# Altium footprint library VALIX.PcbLib: 48 footprints (part 2 of 3)
Each footprint in its own frame and in the unit in brackets; x right, y up, seen from the top. Pads: shape width x height; smd on the part's side, far side on the other; paste and mask are expansions set on the pad; w line width, h text height; cw(c..) or ccw(c..) is an arc to the next point about the centre after c.
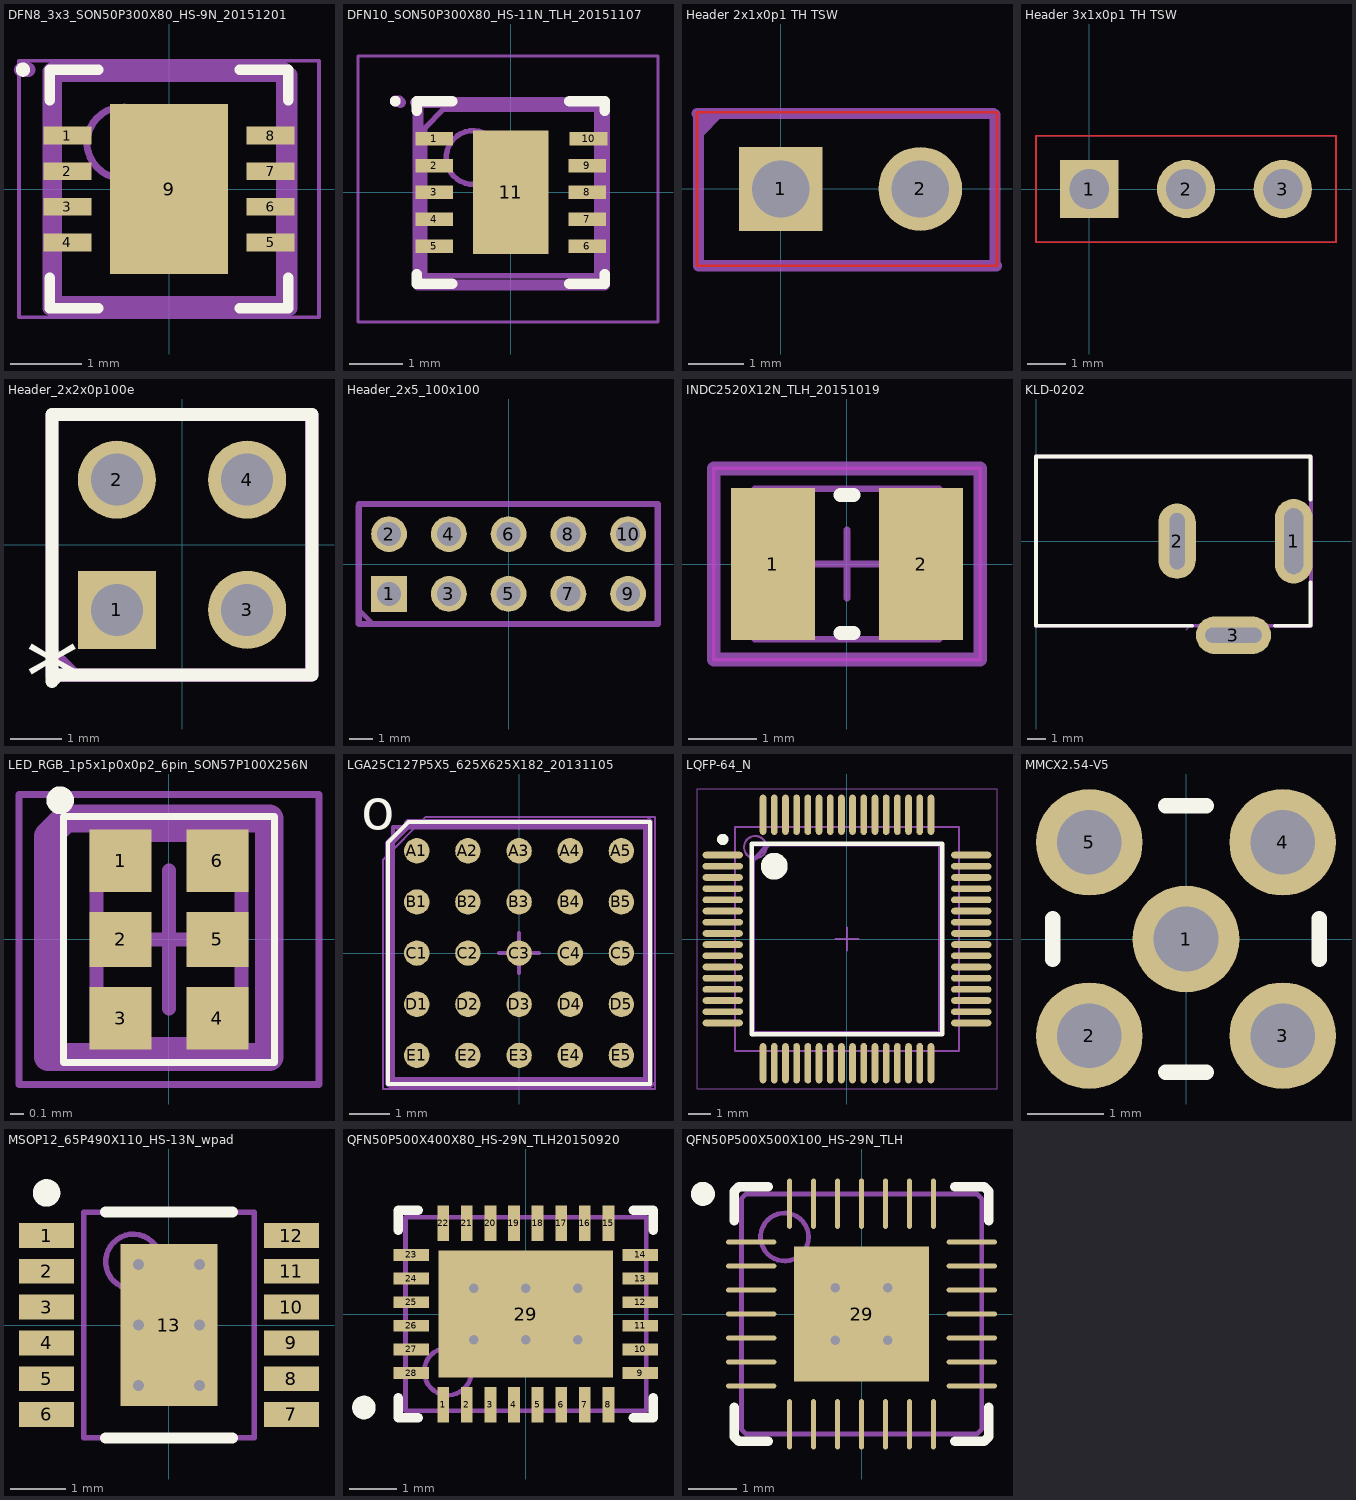
[diagram p1: the footprints below, top view; thin cyan lines are the x and y axes]

## DFN8_3x3_SON50P300X80_HS-9N_20151201 [mm] "SON, 8-Leads, Body 3.00x3.00mm, Pitch 0.50mm, Thermal Pad 2.80x1.80mm, IPC Medium Density"
height 0.8
pads (9):
  rect 0.675x0.25 smd: 1(-1.425,0.75) 2(-1.425,0.25) 3(-1.425,-0.25) 4(-1.425,-0.75) 5(1.425,-0.75) 6(1.425,-0.25) 7(1.425,0.25) 8(1.425,0.75)
  rect 1.65x2.38 smd: 9(0,0)
Top Overlay:
  circle w0.1: c-2.05,1.675 r0.05
  lines w0.15: -1.675,-1.25 -1.675,-1.675 -0.995,-1.675 ; -1.675,1.25 -1.675,1.675 -0.995,1.675 ; 0.995,-1.675 1.675,-1.675 1.675,-1.25 ; 0.995,1.675 1.675,1.675 1.675,1.25
Assy Top:
  lines w0.203: -2.075,1.675 -1.975,1.675 ; -1.675,-1.675 1.7,-1.675 1.7,1.6 1.625,1.675 -1.65,1.675 -1.675,1.65 -1.675,-1.675
  text ".Designator" at -1.2,-0.05 h0.51
Mech 13 3D:
  circle w0.1: c-0.65,0.65 r0.5
  lines w0.1: -1.55,-1.55 -1.55,1.55 1.55,1.55 1.55,-1.55 -1.55,-1.55
Mech 15 Keepout:
  lines w0.05: -2.105,-1.8 -2.105,1.8 2.105,1.8 2.105,-1.8 -2.105,-1.8
  lines w0.1: -0.5,0 0.5,0 ; 0,-0.5 0,0.5
3D body: height 0.79, standoff 0, extent -1.55,-1.55 1.55,1.55

## DFN10_SON50P300X80_HS-11N_TLH_20151107 [mm] "SON, 10-Leads, Body 3.00x3.00mm, Pitch 0.50mm, Thermal Pad 2.38x1.49mm, IPC Medium Density"
height 0.8
pads (11):
  rect 0.7x0.25 smd: 1(-1.425,1) 2(-1.425,0.5) 3(-1.425,0) 4(-1.425,-0.5) 5(-1.425,-1) 6(1.425,-1) 7(1.425,-0.5) 8(1.425,0) 9(1.425,0.5) 10(1.45,1)
  rect 1.4x2.3 smd: 11(0,0)
Top Overlay:
  circle w0.1: c-2.15,1.7 r0.05
  lines w0.2: -1.75,-1.525 -1.75,-1.7 -1.095,-1.7 ; -1.75,1.525 -1.75,1.7 -1.095,1.7 ; 1.095,-1.7 1.75,-1.7 1.75,-1.525 ; 1.095,1.7 1.75,1.7 1.75,1.525
Assy Top:
  lines w0.203: -2.15,1.7 -2.075,1.7 -2.05,1.675 ; -1.775,1.675 1.75,1.675 1.75,-1.725 -1.725,-1.725 -1.725,1.625 -1.775,1.675
  text ".Designator" at -1.275,-0.175 h0.64
Mech 13 3D:
  circle w0.1: c-0.7,0.65 r0.5
  lines w0.1: -1.6,-1.55 -1.6,1.2 -1.25,1.55 1.6,1.55 1.6,-1.55 -1.6,-1.55
Mech 15 Keepout:
  lines w0.05: -2.844,-2.413 2.744,-2.413 2.744,2.54 -2.844,2.54 -2.844,-2.413
  lines w0.1: -0.55,0 0.45,0 ; -0.05,-0.5 -0.05,0.5
3D body: height 0.8, standoff 0.05, extent -1.6,-1.55 1.5,1.55

## Header 2x1x0p1 TH TSW [mil] "Header 2x1x0p1 Thru OV-430"
pads (2):
  rect 60x60 hole 41: 1(0,0)
  round 60 hole 41: 2(100,0)
Top Layer:
  lines w1.97: -60,-55 -60,55 155,55 155,-55 -60,-55
Mechanical 1:
  lines w1.97: -60,-55 155,-55 155,45 155,55 -55,55 -60,50 -60,-55
Assy Top:
  lines w8: -45.28,54.13 -58.07,41.34 ; -58.07,41.34 -58.07,41.34 ; -60.04,54.13 -59.06,53.15 -59.06,-55.12 154.53,-55.12 153.54,-54.13 153.54,53.15 152.56,54.13 -60.04,54.13
  text ".Designator" at -41.34,-5.91 h25
3D body "TSW-102-26-XX-S.step": height 330.5, standoff -125.5, extent -55,-50.05 150,50

## Header 3x1x0p1 TH TSW [mil] "Header 2x1x0p1 Thru OV-430"
pads (3):
  rect 60x60 hole 41: 1(0,0)
  round 60 hole 41: 2(100,0) 3(200,0)
Top Layer:
  lines w1.97: -55,-55 -55,55 255,55 255,-55 -55,-55
Mechanical 1:
  lines w1.97: -55,-55 255,-55 255,-11.25 255,55 -55,55 -55,-55
3D body "TSW-103-07-X-S.step": height 330, standoff -100, extent -50,-50 250,50

## Header_2x2x0p100e [mil] "Header 2x2x100mil Samtec TSW standard"
height 350
pads (4):
  rect 60x60 hole 40: 1(-50,-50)
  round 60 hole 40: 2(-50,50) 3(50,-50) 4(50,50)
Top Overlay:
  lines w10: -100,-105 -100,100 100,100 100,-100 -95,-100 -100,-105
  text "*" at -120,-130 h60
Assy Top:
  lines w8: -99.41,-84.65 -96.46,-84.65 -82.68,-98.43 -82.68,-100.39 ; -100.39,100.39 96.46,100.39 98.43,98.43 98.43,-101.38 -99.41,-101.38 -99.41,99.41 -100.39,100.39
  text ".Designator" at -74.8,-5.91 h40
Mech 13 3D:
  lines w10: -100,-100 100,-100 100,100 -100,100 -100,-100 ; -100,-100 -100,-100
3D body "Pin Header 2x2 TH Pitch 2.54mm.stp": height 373.85, standoff -125.98, extent -100,-100 100,100

## Header_2x5_100x100 [mil] "Header 2x5 100x100 Samtec TSW standard"
pads (10):
  rect 60x60 hole 40: 1(-200,-50)
  round 60 hole 40: 2(-200,50) 3(-100,-50) 4(-100,50) 5(0,-50) 6(0,50) 7(100,-50) 8(100,50) 9(200,-50) 10(200,50)
Assy Top:
  lines w8: -250.98,-79.72 -247.05,-79.72 -230.31,-96.46 ; -251.97,-100.39 248.03,-100.39 248.03,100.39 -249.02,100.39 -251.97,97.44 -251.97,-100.39
  text ".Designator" at -122.05,-5.91 h50
Mech 13 3D:
  lines w10: -250,-100 250,-100 ; -250,-100 -250,-100 ; -250,-100 -250,100 250,100 250,-100 ; 250,-100 250,-100
3D body "TSW-105-15-X-D.step": height 620.5, standoff -109.5, extent -250,-100 250,100

## INDC2520X12N_TLH_20151019 [mm] "Chip Inductor, 2-Leads, Body 2.50x2.00mm, IPC Medium Density"
height 1.2
pads (2):
  rect 1.23x2.22 smd: 1(-1.085,0) 2(1.085,0)
Top Overlay:
  lines w0.2: -0.1,-1.01 0.1,-1.01 ; -0.1,1.01 0.1,1.01
Keep-Out Layer:
  lines w0.05: -1.95,-1.4 -1.95,1.4 1.95,1.4 1.95,-1.4 -1.95,-1.4
Assy Top:
  lines w0.203: -1.95,-1.4 -1.95,1.4 1.95,1.4 1.95,-1.4 -1.95,-1.4
  text ".Designator" at -1.6,-0.4 h1.02
Mech 13 3D:
  lines w0.1: -1.35,-1.1 -1.35,1.1 1.35,1.1 1.35,-1.1 -1.35,-1.1
Mech 15 Keepout:
  lines w0.1: -0.5,0 0.5,0 ; 0,-0.5 0,0.5
3D body: height 1.2, standoff 0, extent -0.75,-1.1 0.75,1.1
3D body: height 1.2, standoff 0, extent -1.35,-1.1 -0.75,1.1
3D body: height 1.2, standoff 0, extent 0.75,-1.1 1.35,1.1

## KLD-0202 [mm] "DC Power Jack, 2.5mm, KLD Series, PCB Mount"
pads (3):
  oval 2x4.5 hole 1 slot 3.5 at 90 deg: 1(13.7,0)
  oval 2x4 hole 0.8 slot 3 at 90 deg: 2(7.5,0)
  oval 4x2 hole 0.8 slot 3 at 0 deg: 3(10.5,-5)
Top Overlay:
  lines w0.2: 8.3,-4.5 0,-4.5 0,4.5 14.6,4.5 14.6,2.2 ; 12.7,-4.5 14.6,-4.5 14.6,-2.2
Mechanical 1:
  lines w0.05: 8.001,-4.699 8.255,-4.445 0.127,-4.445 0,-4.572 0,4.572 14.605,4.572 14.605,2.286 14.605,4.318 ; 12.7,-4.572 14.605,-4.572 14.605,-2.159
Assy Top:
  lines w0.203: 0,-4.525 0,4.45 0.05,4.5 14.55,4.5 14.625,4.425 14.625,-4.475 14.6,-4.5 0.025,-4.5 0,-4.525
  text ".Designator" at 1.775,-0.425 h1.02
3D body "KLDHCX-0202-A_rA2.STEP": height 11, standoff -3.5, extent -0.099,-5.283 14.351,4.267

## LED_RGB_1p5x1p0x0p2_6pin_SON57P100X256N [mm] "SON, 6-Leads, Body 1.50x1.00mm, Pitch 0.57mm, IPC Medium Density"
height 0.25
pads (6):
  rect 0.45x0.45 smd: 1(-0.35,0.57) 3(-0.35,-0.57) 4(0.35,-0.57) 6(0.35,0.57)
  rect 0.45x0.4 smd: 2(-0.35,0) 5(0.35,0)
Top Overlay:
  circle w0.1: c-0.787,1.007 r0.05
  lines w0.05: -0.762,-0.889 0.762,-0.889 0.762,0.889 -0.762,0.889 -0.762,-0.889
Assy Top:
  lines w0.203: -0.875,-0.85 0.725,-0.85 0.725,0.875 -0.75,0.875 -0.875,0.75 -0.875,-0.85
  text ".Designator" at -0.55,-0.1 h0.25
Mech 13 3D:
  lines w0.1: -0.525,-0.755 -0.525,0.755 0.525,0.755 0.525,-0.755 -0.525,-0.755
Mech 15 Keepout:
  lines w0.05: -1.085,-1.05 -1.085,1.05 1.085,1.05 1.085,-1.05 -1.085,-1.05
  lines w0.1: -0.5,0 0.5,0 ; 0,-0.5 0,0.5
3D body: height 0.25, standoff 0.01, extent -0.525,-0.755 0.525,0.755

## LGA25C127P5X5_625X625X182_20131105 [mm] "LGA, 25-Leads, Body 6.25x6.25mmx1.82mm, Pitch 1.27mm"
height 1.82
pads (25):
  round 0.63 smd: A1(-2.54,2.54) A2(-1.27,2.54) A3(0,2.54) A4(1.27,2.54) A5(2.54,2.54) B1(-2.54,1.27) B2(-1.27,1.27) B3(0,1.27) B4(1.27,1.27) B5(2.54,1.27) C1(-2.54,0) C2(-1.27,0) C3(0,0) C4(1.27,0) C5(2.54,0) D1(-2.54,-1.27) D2(-1.27,-1.27) D3(0,-1.27) D4(1.27,-1.27) D5(2.54,-1.27) E1(-2.54,-2.54) E2(-1.27,-2.54) E3(0,-2.54) E4(1.27,-2.54) E5(2.54,-2.54)
Top Overlay:
  lines w0.1: -3.25,-3.25 -3.25,2.75 -2.75,3.25 3.25,3.25 3.25,-3.25 -3.25,-3.25 ; -3.25,-3.25 -3.25,-3.25
  text "o" at -3.925,3.075 h1
Assy Top:
  lines w0.203: -2.75,3.2 -3.225,2.725 -3.225,-3.225 -3.2,-3.25 3.25,-3.25 3.225,-3.225 3.225,3.25 3.2,3.225 -2.75,3.225
  text ".Designator" at -2,0.25 h1.02
Mech 13 3D:
  lines w0.1: -3.125,-3.125 3.125,-3.125 3.125,3.125 -3.125,3.125 -3.125,-3.125
Mech 15 Keepout:
  lines w0.05: -3.375,-3.375 3.375,-3.375 3.375,3.375 -2.325,3.375 -3.375,2.325 -3.375,-3.375
  lines w0.1: -0.5,0 0.5,0 ; 0,-0.5 0,0.5
  text "*" at -4.854,3.3 h1.52
3D body: height 1.82, standoff 0.32, extent -3.125,-3.125 3.125,3.125

## LQFP-64_N [mm] "Thin QFP, 64-Leads, Body 10x10mm, Pitch 0.5mm, IPC Medium Density"
height 1.6
pads (64):
  oval 1.8x0.3 smd: 1(-5.55,3.75) 2(-5.55,3.25) 3(-5.55,2.75) 4(-5.55,2.25) 5(-5.55,1.75) 6(-5.55,1.25) 7(-5.55,0.75) 8(-5.55,0.25) 9(-5.55,-0.25) 10(-5.55,-0.75) 11(-5.55,-1.25) 12(-5.55,-1.75) 13(-5.55,-2.25) 14(-5.55,-2.75) 15(-5.55,-3.25) 16(-5.55,-3.75) 33(5.55,-3.75) 34(5.55,-3.25) 35(5.55,-2.75) 36(5.55,-2.25) 37(5.55,-1.75) 38(5.55,-1.25) 39(5.55,-0.75) 40(5.55,-0.25) 41(5.55,0.25) 42(5.55,0.75) 43(5.55,1.25) 44(5.55,1.75) 45(5.55,2.25) 46(5.55,2.75) 47(5.55,3.25) 48(5.55,3.75)
  oval 0.3x1.8 smd: 17(-3.75,-5.55) 18(-3.25,-5.55) 19(-2.75,-5.55) 20(-2.25,-5.55) 21(-1.75,-5.55) 22(-1.25,-5.55) 23(-0.75,-5.55) 24(-0.25,-5.55) 25(0.25,-5.55) 26(0.75,-5.55) 27(1.25,-5.55) 28(1.75,-5.55) 29(2.25,-5.55) 30(2.75,-5.55) 31(3.25,-5.55) 32(3.75,-5.55) 49(3.75,5.55) 50(3.25,5.55) 51(2.75,5.55) 52(2.25,5.55) 53(1.75,5.55) 54(1.25,5.55) 55(0.75,5.55) 56(0.25,5.55) 57(-0.25,5.55) 58(-0.75,5.55) 59(-1.25,5.55) 60(-1.75,5.55) 61(-2.25,5.55) 62(-2.75,5.55) 63(-3.25,5.55) 64(-3.75,5.55)
Top Overlay:
  circle w0.25: c-5.55,4.45 r0.125
  circle w0.6: c-3.25,3.25 r0.3
  lines w0.2: -4.25,-4.25 -4.25,4.25 4.25,4.25 4.25,-4.25 -4.25,-4.25
Assy Top:
  lines w0.203: -4.2,4.225 4.15,4.225 4.175,4.2 4.175,-4.175 4.2,-4.2 -4.15,-4.2 -4.2,-4.25 -4.2,3.525 -3.5,4.225
  text ".Designator" at -2.9,0.225 h1.27
Mech 13 3D:
  circle w0.1: c-4.1,4.1 r0.5
  lines w0.1: -5,-5 -5,5 5,5 5,-5 -5,-5
Mech 15 Keepout:
  lines w0.05: -6.7,-6.7 -6.7,6.7 6.7,6.7 6.7,-6.7 -6.7,-6.7
  lines w0.1: -0.5,0 0.5,0 ; 0,-0.5 0,0.5
3D body: height 1.6, standoff 0, extent -5,-5 5,5

## MMCX2.54-V5 [mm] "Connector; RF Coaxial, MMCX, Thru-Hole; 5 Position; Vertical"
height 4.45
pads (5):
  round 1.4 hole 0.85: 1(0,0) 2(-1.27,-1.27) 3(1.27,-1.27) 4(1.27,1.27) 5(-1.27,1.27)
Top Overlay:
  lines w0.2: -1.75,-0.27 -1.75,0.27 ; -0.27,-1.75 0.27,-1.75 ; -0.27,1.75 0.27,1.75 ; 1.75,-0.27 1.75,0.27
Assy Top:
  text ".Designator" at -1.35,-0.15 h1.02

## MSOP12_65P490X110_HS-13N_wpad [mm] "MSOP, 12-Leads, Body 4.04x3.00mm, Pitch 0.65mm, Thermal Pad 2.95x1.76mm, IPC Medium Density"
height 1.1
pads (13):
  rect 1x0.45 smd: 1(-2.225,1.625) 2(-2.225,0.975) 3(-2.225,0.325) 4(-2.225,-0.325) 5(-2.225,-0.975) 6(-2.225,-1.625) 7(2.225,-1.625) 8(2.225,-0.975) 9(2.225,-0.325) 10(2.225,0.325) 11(2.225,0.975) 12(2.225,1.625)
  rect 1.76x2.95 smd: 13(0,0)
via 0.55,-1.1 diameter 0.5 hole 0.2
via -0.55,-1.1 diameter 0.5 hole 0.2
via 0.55,0 diameter 0.5 hole 0.2
via -0.55,0 diameter 0.5 hole 0.2
via 0.55,1.1 diameter 0.5 hole 0.2
via -0.55,1.1 diameter 0.5 hole 0.2
Top Overlay:
  circle w0.25: c-2.225,2.4 r0.125
  lines w0.2: -1.15,-2.05 1.15,-2.05 ; -1.15,2.05 1.15,2.05
Mech 13 3D:
  circle w0.1: c-0.65,1.15 r0.5
  lines w0.1: -1.55,-2.05 1.55,-2.05 1.55,2.05 -1.55,2.05 -1.55,-2.05
Mech 15 Keepout:
  lines w0.1: -0.5,0 0.5,0 ; 0,-0.5 0,0.5
3D body: height 1.1, standoff 0.05, extent -1.55,-2.05 1.55,2.05

## PCBComponent_1 [mm]

## QFN50P500X400X80_HS-29N_TLH20150920 [mm] "QFN, 28-Leads, Body 5.00x4.00mm, Pitch 0.50mm, Thermal Pad 3.75x2.75mm, IPC Medium Density"
height 0.8
pads (29):
  rect 0.25x0.75 smd: 1(-1.75,-1.925) 2(-1.25,-1.925) 3(-0.75,-1.925) 4(-0.25,-1.925) 5(0.25,-1.925) 6(0.75,-1.925) 7(1.25,-1.925) 8(1.75,-1.925) 15(1.75,1.925) 16(1.25,1.925) 17(0.75,1.925) 18(0.25,1.925) 19(-0.25,1.925) 20(-0.75,1.925) 21(-1.25,1.925) 22(-1.75,1.925)
  rect 0.75x0.25 smd: 9(2.425,-1.25) 10(2.425,-0.75) 11(2.425,-0.25) 12(2.425,0.25) 13(2.425,0.75) 14(2.425,1.25) 23(-2.425,1.25) 24(-2.425,0.75) 25(-2.425,0.25) 26(-2.425,-0.25) 27(-2.425,-0.75) 28(-2.425,-1.25)
  rect 3.7x2.7 smd: 29(0,0)
via 1.1,-0.55 diameter 0.5 hole 0.2
via 0,-0.55 diameter 0.5 hole 0.2
via -1.1,-0.55 diameter 0.5 hole 0.2
via 1.1,0.55 diameter 0.5 hole 0.2
via 0,0.55 diameter 0.5 hole 0.2
via -1.1,0.55 diameter 0.5 hole 0.2
Top Overlay:
  circle w0.25: c-3.429,-1.981 r0.125
  lines w0.2: -2.7,-1.775 -2.7,-2.2 -2.275,-2.2 ; -2.7,1.775 -2.7,2.2 -2.275,2.2 ; 2.275,-2.2 2.7,-2.2 2.7,-1.775 ; 2.275,2.2 2.7,2.2 2.7,1.775
Mech 13 3D:
  circle w0.1: c-1.651,-1.219 r0.5
  lines w0.1: -2.55,-2.05 2.55,-2.05 2.55,2.05 -2.55,2.05 -2.55,-2.05
Mech 15 Keepout:
  lines w0.1: -0.5,0 0.5,0 ; 0,-0.5 0,0.5
3D body: height 0.8, standoff 0.01, extent -2.55,-2.05 2.55,2.05

## QFN50P500X500X100_HS-29N_TLH [mm] "QFN, 28-Leads, Body 5.00x5.00mm, Pitch 0.50mm, Thermal Pad 2.82x2.82mm, IPC Medium Density"
height 1
pads (29):
  oval 1.05x0.1 smd: 1(-2.3,1.5) 2(-2.3,1) 3(-2.3,0.5) 4(-2.3,0) 5(-2.3,-0.5) 6(-2.3,-1) 7(-2.3,-1.5) 15(2.3,-1.5) 16(2.3,-1) 17(2.3,-0.5) 18(2.3,0) 19(2.3,0.5) 20(2.3,1) 21(2.3,1.5)
  oval 0.1x1.05 smd: 8(-1.5,-2.3) 9(-1,-2.3) 10(-0.5,-2.3) 11(0,-2.3) 12(0.5,-2.3) 13(1,-2.3) 14(1.5,-2.3) 22(1.5,2.3) 23(1,2.3) 24(0.5,2.3) 25(0,2.3) 26(-0.5,2.3) 27(-1,2.3) 28(-1.5,2.3)
  rect 2.82x2.82 smd: 29(0,0)
via -0.55,0.55 diameter 0.5 hole 0.2
via 0.55,0.55 diameter 0.5 hole 0.2
via -0.55,-0.55 diameter 0.5 hole 0.2
via 0.55,-0.55 diameter 0.5 hole 0.2
Top Overlay:
  circle w0.25: c-3.305,2.505 r0.125
  lines w0.2: -2.655,-1.95 -2.655,-2.555 -2.555,-2.655 -1.95,-2.655 ; -2.655,1.95 -2.655,2.555 -2.555,2.655 -1.95,2.655 ; 1.95,-2.655 2.555,-2.655 2.655,-2.555 2.655,-1.95 ; 1.95,2.655 2.555,2.655 2.655,2.555 2.655,1.95
Mech 13 3D:
  circle w0.1: c-1.605,1.605 r0.5
  lines w0.1: -2.505,-2.405 -2.405,-2.505 2.405,-2.505 2.505,-2.405 2.505,2.405 2.405,2.505 -2.405,2.505 -2.505,2.405 -2.505,-2.405
Mech 15 Keepout:
  lines w0.1: -0.5,0 0.5,0 ; 0,-0.5 0,0.5
3D body: height 1, standoff 0.05, extent -2.505,-2.505 2.505,2.505